# EAGLE library part A7GPRS-GPS (library A7GPRS-GPS)
Modulo de comunicaciones GSM/GPRS-GPS Creada por :Fabio Sierra Contact: https://www.facebook.com/fabioluis.sierracastro https://github.com/FabioSierra
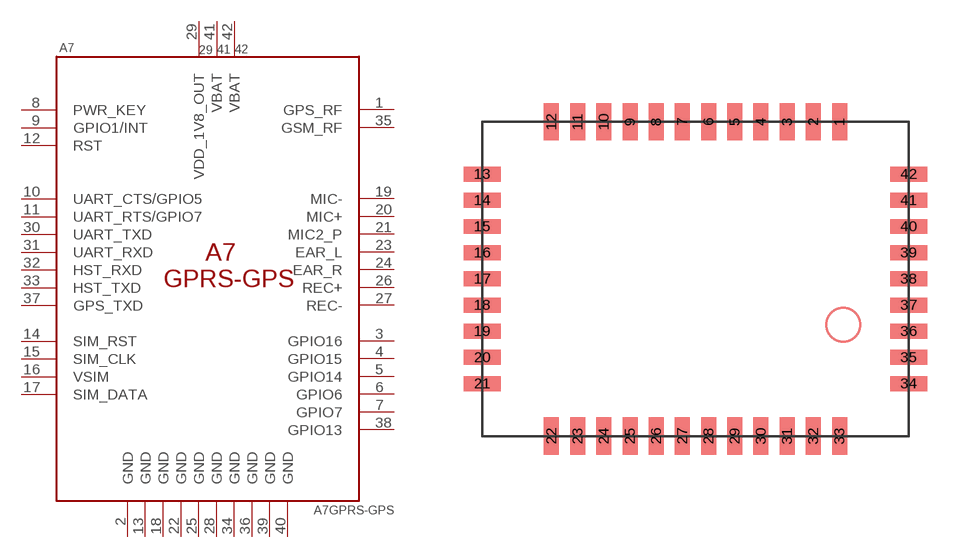
[diagram p0: symbol with the pads of A7GPRS-GPS; footprint A7GPRS-GPS]

Designator prefix A7

## A7GPRS-GPS  [A7GPRS-GPS]
1  GPS_RF
2  GND
3  GPIO16
4  GPIO15
5  GPIO14
6  GPIO6
7  GPIO7
8  PWR_KEY
9  GPIO1/INT
10  UART_CTS/GPIO5
11  UART_RTS/GPIO7
12  RST
13  GND
14  SIM_RST
15  SIM_CLK
16  VSIM
17  SIM_DATA
18  GND
19  MIC-
20  MIC+
21  MIC2_P
22  GND
23  EAR_L
24  EAR_R
25  GND
26  REC+
27  REC-
28  GND
29  VDD_1V8_OUT
30  UART_TXD
31  UART_RXD
32  HST_RXD
33  HST_TXD
34  GND
35  GSM_RF
36  GND
37  GPS_TXD
38  GPIO13
39  GND
40  GND
41  VBAT
42  VBAT

## Footprint A7GPRS-GPS (pad centres in mm)
smd 0.8 x 2: 1 7.67,11.72; 2 6.27,11.72; 3 4.87,11.72; 4 3.47,11.72; 5 2.07,11.72; 6 0.67,11.72; 7 -0.73,11.72; 8 -2.13,11.72; 9 -3.53,11.72; 10 -4.93,11.72; 11 -6.33,11.72; 12 -7.73,11.72; 22 -7.73,-5.08; 23 -6.33,-5.08; 24 -4.93,-5.08; 25 -3.53,-5.08; 26 -2.13,-5.08; 27 -0.73,-5.08; 28 0.67,-5.08; 29 2.07,-5.08; 30 3.47,-5.08; 31 4.87,-5.08; 32 6.27,-5.08; 33 7.67,-5.08
smd 2 x 0.8: 13 -11.43,8.92; 14 -11.43,7.52; 15 -11.43,6.12; 16 -11.43,4.72; 17 -11.43,3.32; 18 -11.43,1.92; 19 -11.43,0.52; 20 -11.43,-0.88; 21 -11.43,-2.28; 34 11.37,-2.28; 35 11.37,-0.88; 36 11.37,0.52; 37 11.37,1.92; 38 11.37,3.32; 39 11.37,4.72; 40 11.37,6.12; 41 11.37,7.52; 42 11.37,8.92